# Altium schematic symbol library mini560.SchLib: 1 symbol
Pins are listed as number, name and electrical type; pins without a type are passive.

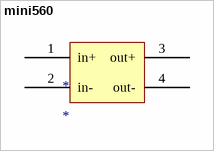
[diagram p0: symbol mini560]

## mini560
designator *
footprint mini560
pins: 1 in+, 2 in-, 3 out+, 4 out-